# Altium footprint library VNH2SP30.PcbLib: 1 footprints
Each footprint in its own frame and in the unit in brackets; x right, y up, seen from the top. Pads: shape width x height; smd on the part's side, far side on the other; paste and mask are expansions set on the pad; w line width, h text height; cw(c..) or ccw(c..) is an arc to the next point about the centre after c.
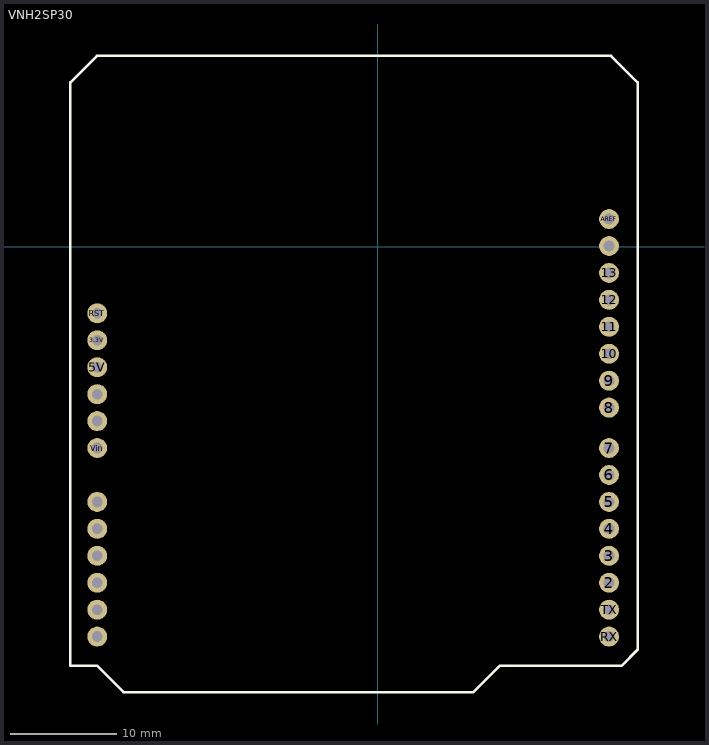
[diagram p0: the footprint, top view; thin cyan lines are the x and y axes]

## VNH2SP30 [mil]
pads (28):
  round 74 hole 40: "0 (Analog)"(-1041.73,-947.24) "1 (Analog)"(-1041.73,-1047.24) 2(858.27,-1247.24) "2 (Analog)"(-1041.73,-1147.24) 3(858.27,-1147.24) "3 (Analog)"(-1041.73,-1247.24) 3.3V(-1041.73,-347.24) 4(858.27,-1047.24) "4 (Analog)"(-1041.73,-1347.24) 5(858.27,-947.24) "5 (Analog)"(-1041.73,-1447.24) 5V(-1041.73,-447.24) 6(858.27,-847.24) 7(858.27,-747.24) 8(858.27,-597.24) 9(858.27,-497.24) 10(858.27,-397.24) 11(858.27,-297.24) 12(858.27,-197.24) 13(858.27,-97.24) AREF(858.27,102.76) "GND 0"(-1041.73,-647.24) "GND 1"(-1041.73,-547.24) "GND 2"(858.27,2.76) RST(-1041.73,-247.24) RX(858.27,-1447.24) TX(858.27,-1347.24) Vin(-1041.73,-747.24)
Top Overlay:
  lines w10: -1141.73,-1555.12 -1141.73,610.24 -1043.31,708.66 866.14,708.66 964.57,610.24 964.57,-1496.06 905.51,-1555.12 452.76,-1555.12 374.02,-1633.86 354.33,-1653.54 -944.88,-1653.54 -1043.31,-1555.12 -1141.73,-1555.12
3D body "Monster Moto Shield Vnh2sp30 Puente H v46.step": height 429.13, standoff 0, extent -1147.63,-1651.57 950.79,706.69